# Altium integrated library 6130XX11121_61301011121.IntLib: 1 symbol
Pins are listed as number, name and electrical type; pins without a type are passive.

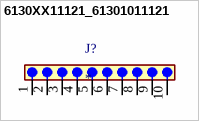
[diagram p0: symbol 6130XX11121_61301011121]

## 6130XX11121_61301011121
designator J?
10 pins, 1 row, straight, gold plating; MF: Wurth Elektronik; MP: 61301011121; SnapEDA_Link: https://www.snapeda.com/parts/61301011121/Wurth+Electronics/view-part/?ref=snap; Package: None; Value: *; Check_prices: https://www.snapeda.com/parts/61301011121/Wurth+Electronics/view-part/?ref=eda
footprint 61301011121
pins: 1, 2, 3, 4, 5, 6, 7, 8, 9, 10